# Altium footprint library PowerInductors.PCBLIB: 52 footprints (part 2 of 4)
Each footprint in its own frame and in the unit in brackets; x right, y up, seen from the top. Pads: shape width x height; smd on the part's side, far side on the other; paste and mask are expansions set on the pad; w line width, h text height; cw(c..) or ccw(c..) is an arc to the next point about the centre after c.
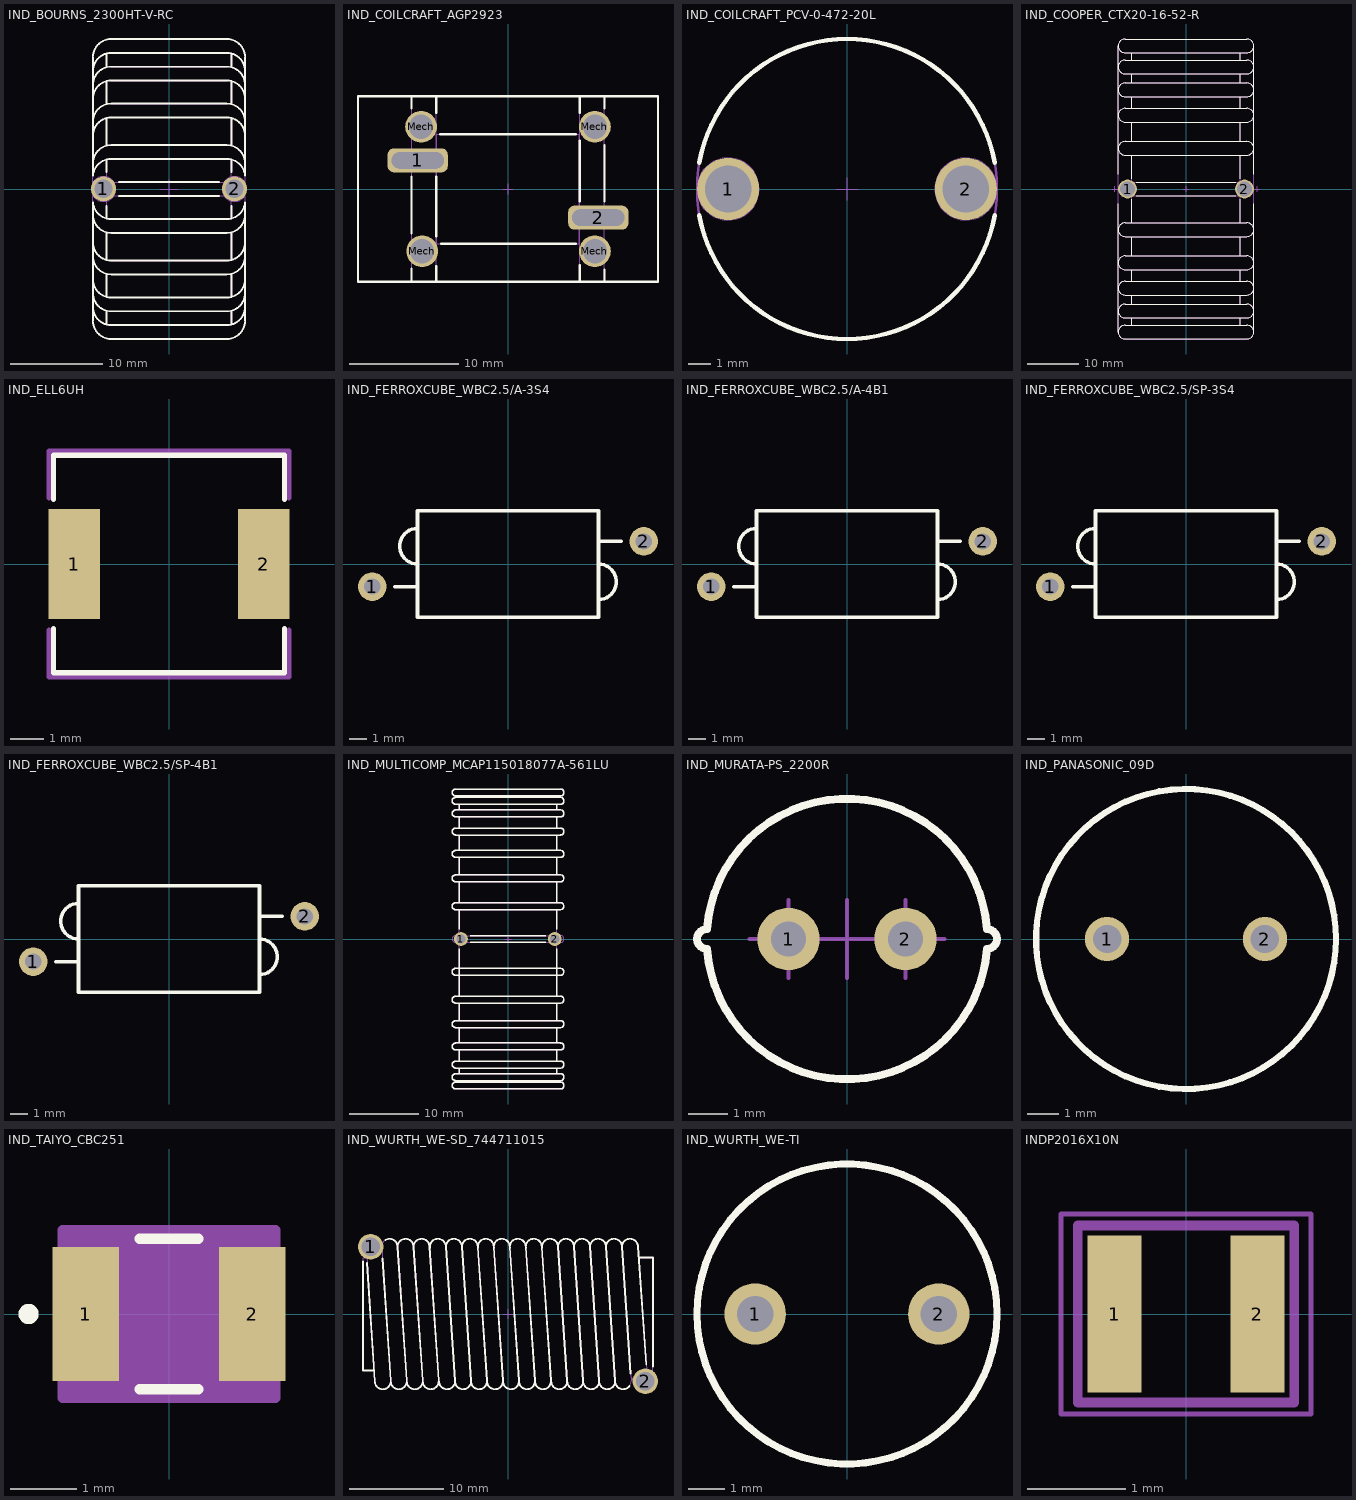
[diagram p1: the footprints below, top view; thin cyan lines are the x and y axes]

## IND_BOURNS_2300HT-V-RC [mm] "Vertical Leaded Toroidal Inductor Lead Spacing  14.22mm D32.51mm x W16.51mm"
height 32.51
pads (2):
  round 2.7 hole 2: 1(-7.1,0.013) 2(7.1,0.013)
Top Overlay:
  lines w0.2: -8.255,-12.756 ccw(c-6.255,-12.756) -6.255,-14.756 6.255,-14.756 ccw(c6.255,-12.756) 8.255,-12.756 ; -8.255,-11.256 ccw(c-6.255,-11.256) -6.255,-13.256 6.255,-13.256 ccw(c6.255,-11.256) 8.255,-11.256 ; -8.255,-9.756 ccw(c-6.255,-9.756) -6.255,-11.756 6.255,-11.756 ccw(c6.255,-9.756) 8.255,-9.756 ; -8.255,-7.256 ccw(c-6.255,-7.256) -6.255,-9.256 6.255,-9.256 ccw(c6.255,-7.256) 8.255,-7.256 ; -8.255,-5.756 ccw(c-6.255,-5.756) -6.255,-7.756 6.255,-7.756 ccw(c6.255,-5.756) 8.255,-5.756 ; -8.255,-2.756 ccw(c-6.255,-2.756) -6.255,-4.756 6.255,-4.756 ccw(c6.255,-2.756) 8.255,-2.756 ; -8.255,-1.445 -8.255,-14.256 ccw(c-6.255,-14.256) -6.255,-16.256 6.255,-16.256 ccw(c6.255,-14.256) 8.255,-14.256 8.255,-1.445 ; -8.255,1.445 -8.255,14.256 cw(c-6.255,14.256) -6.255,16.256 6.255,16.256 cw(c6.255,14.256) 8.255,14.256 8.255,1.445 ; -8.255,2.756 cw(c-6.255,2.756) -6.255,4.756 6.255,4.756 cw(c6.255,2.756) 8.255,2.756 ; -8.255,5.756 cw(c-6.255,5.756) -6.255,7.756 6.255,7.756 cw(c6.255,5.756) 8.255,5.756 ; -8.255,7.256 cw(c-6.255,7.256) -6.255,9.256 6.255,9.256 cw(c6.255,7.256) 8.255,7.256 ; -8.255,9.756 cw(c-6.255,9.756) -6.255,11.756 6.255,11.756 cw(c6.255,9.756) 8.255,9.756 ; -8.255,11.256 cw(c-6.255,11.256) -6.255,13.256 6.255,13.256 cw(c6.255,11.256) 8.255,11.256 ; -8.255,12.756 cw(c-6.255,12.756) -6.255,14.756 6.255,14.756 cw(c6.255,12.756) 8.255,12.756 ; -8.245,-1.453 ccw(c-6.255,-1.256) -6.255,-3.256 6.255,-3.256 ccw(c6.255,-1.256) 8.245,-1.453 ; -8.245,1.453 cw(c-6.255,1.256) -6.255,3.256 6.255,3.256 cw(c6.255,1.256) 8.245,1.453 ; -6.755,-14.692 -6.755,-13.192 ; -6.755,-11.692 -6.755,-9.192 ; -6.755,-7.692 -6.755,-4.692 ; -6.755,-3.192 -6.755,-1.818 ; -6.755,1.818 -6.755,3.192 ; -6.755,4.692 -6.755,7.692 ; -6.755,9.192 -6.755,11.692 ; -6.755,13.192 -6.755,14.692 ; -5.409,-0.75 5.409,-0.75 ; -5.409,0.75 5.409,0.75 ; 6.755,-14.692 6.755,-13.192 ; 6.755,-11.692 6.755,-9.192 ; 6.755,-7.692 6.755,-4.692 ; 6.755,-3.192 6.755,-1.818 ; 6.755,1.818 6.755,3.192 ; 6.755,4.692 6.755,7.692 ; 6.755,9.192 6.755,11.692 ; 6.755,13.192 6.755,14.692
Mechanical 8:
  circle w0.1: c7.1,0 r1.35
  circle w0.1: c7.1,0 r1
  circle w0.1: c-7.1,0 r1.35
  circle w0.1: c-7.1,0 r1
  lines w0.1: -8.1,0.013 -7.1,0.013 ; -7.1,-0.987 -7.1,0.013 ; -7.1,1.013 -7.1,0.013 ; -6.1,0.013 -7.1,0.013 ; -1,0 0,0 ; 0,-1 0,0 ; 0,1 0,0 ; 1,0 0,0 ; 6.1,0.013 7.1,0.013 ; 7.1,-0.987 7.1,0.013 ; 7.1,1.013 7.1,0.013 ; 8.1,0.013 7.1,0.013
Mechanical 14:
  lines w0.1: -8.255,-12.756 ccw(c-6.255,-12.756) -6.255,-14.756 6.255,-14.756 ccw(c6.255,-12.756) 8.255,-12.756 ; -8.255,-11.256 ccw(c-6.255,-11.256) -6.255,-13.256 6.255,-13.256 ccw(c6.255,-11.256) 8.255,-11.256 ; -8.255,-9.756 ccw(c-6.255,-9.756) -6.255,-11.756 6.255,-11.756 ccw(c6.255,-9.756) 8.255,-9.756 ; -8.255,-7.256 ccw(c-6.255,-7.256) -6.255,-9.256 6.255,-9.256 ccw(c6.255,-7.256) 8.255,-7.256 ; -8.255,-5.756 ccw(c-6.255,-5.756) -6.255,-7.756 6.255,-7.756 ccw(c6.255,-5.756) 8.255,-5.756 ; -8.255,-2.756 ccw(c-6.255,-2.756) -6.255,-4.756 6.255,-4.756 ccw(c6.255,-2.756) 8.255,-2.756 ; -8.255,-1.256 ccw(c-6.255,-1.256) -6.255,-3.256 6.255,-3.256 ccw(c6.255,-1.256) 8.255,-1.256 ; -8.255,1.256 cw(c-6.255,1.256) -6.255,3.256 6.255,3.256 cw(c6.255,1.256) 8.255,1.256 ; -8.255,2.756 cw(c-6.255,2.756) -6.255,4.756 6.255,4.756 cw(c6.255,2.756) 8.255,2.756 ; -8.255,5.756 cw(c-6.255,5.756) -6.255,7.756 6.255,7.756 cw(c6.255,5.756) 8.255,5.756 ; -8.255,7.256 cw(c-6.255,7.256) -6.255,9.256 6.255,9.256 cw(c6.255,7.256) 8.255,7.256 ; -8.255,9.756 cw(c-6.255,9.756) -6.255,11.756 6.255,11.756 cw(c6.255,9.756) 8.255,9.756 ; -8.255,11.256 cw(c-6.255,11.256) -6.255,13.256 6.255,13.256 cw(c6.255,11.256) 8.255,11.256 ; -8.255,12.756 cw(c-6.255,12.756) -6.255,14.756 6.255,14.756 cw(c6.255,12.756) 8.255,12.756 ; -6.755,-14.692 -6.755,-13.192 ; -6.755,-11.692 -6.755,-9.192 ; -6.755,-7.692 -6.755,-4.692 ; -6.755,-3.192 -6.755,-0.75 ; -6.755,0.75 -6.755,3.192 ; -6.755,4.692 -6.755,7.692 ; -6.755,9.192 -6.755,11.692 ; -6.755,13.192 -6.755,14.692 ; 6.755,-14.692 6.755,-13.192 ; 6.755,-11.692 6.755,-9.192 ; 6.755,-7.692 6.755,-4.692 ; 6.755,-3.192 6.755,-0.75 ; 6.755,0.75 6.755,3.192 ; 6.755,4.692 6.755,7.692 ; 6.755,9.192 6.755,11.692 ; 6.755,13.192 6.755,14.692 ; -8.255,-14.256 ccw(c-6.255,-14.256) -6.255,-16.256 6.255,-16.256 ccw(c6.255,-14.256) 8.255,-14.256 8.255,14.256 ccw(c6.255,14.256) 6.255,16.256 -6.255,16.256 ccw(c-6.255,14.256) -8.255,14.256 -8.255,-14.256 ; -7.505,-0.75 cw(c-7.505,0) -7.505,0.75 7.505,0.75 cw(c7.505,0) 7.505,-0.75 -7.505,-0.75
3D body "IND_BOURNS_2300HT-V-RC.stp": height 32.51, standoff -3.8, extent -8.343,-16.254 8.287,16.255

## IND_COILCRAFT_AGP2923 [mm] "AGP2923 Series, SMD Inductor  Body Width 19.97mm Body Lenght 27.43mm Height 23.75mm"
height 23.75
pads (6):
  rrect50% 5.5x2.2 hole 1.5 slot 4.8 at 0 deg: 1(-8.255,2.615) 2(8.255,-2.615)
  round 2.9 hole 2.2: Mech(-7.95,5.69) Mech(-7.85,-5.69) Mech(7.95,-5.69) Mech(7.95,5.69)
Top Overlay:
  lines w0.2: -8.815,-8.485 -8.815,-7.298 ; -8.815,-4.082 -8.815,1.145 ; -8.815,7.354 -8.815,8.485 ; -6.565,-8.485 -6.565,-7.055 ; -6.565,-4.325 -6.565,1.145 ; -6.565,6.954 -6.565,8.47 ; -6.207,5 6.207,5 ; -6.107,-5 6.207,-5 ; 6.565,-8.47 6.565,-6.954 ; 6.565,-1.145 6.565,4.426 ; 6.565,6.954 6.565,8.485 ; 8.815,-8.485 8.815,-7.354 ; 8.815,-1.145 8.815,4.026 ; 8.815,7.354 8.815,8.485 ; -13.715,-8.485 13.715,-8.485 13.715,8.485 -13.715,8.485 -13.715,-8.485
Mechanical 8:
  circle w0.1: c-7.95,5.69 r1.12
  circle w0.1: c7.95,5.69 r1.12
  circle w0.1: c7.95,-5.69 r1.12
  circle w0.1: c-7.85,-5.69 r1.12
  lines w0.1: -8.755,2.615 -8.255,2.615 ; -8.45,5.69 -7.95,5.69 ; -8.35,-5.69 -7.85,-5.69 ; -8.255,2.115 -8.255,2.615 ; -8.255,3.115 -8.255,2.615 ; -7.95,5.19 -7.95,5.69 ; -7.95,6.19 -7.95,5.69 ; -7.85,-6.19 -7.85,-5.69 ; -7.85,-5.19 -7.85,-5.69 ; -7.755,2.615 -8.255,2.615 ; -7.45,5.69 -7.95,5.69 ; -7.35,-5.69 -7.85,-5.69 ; -0.5,0 0,0 ; 0,-0.5 0,0 ; 0,0.5 0,0 ; 0.5,0 0,0 ; 7.45,-5.69 7.95,-5.69 ; 7.45,5.69 7.95,5.69 ; 7.755,-2.615 8.255,-2.615 ; 7.95,-6.19 7.95,-5.69 ; 7.95,-5.19 7.95,-5.69 ; 7.95,5.19 7.95,5.69 ; 7.95,6.19 7.95,5.69 ; 8.255,-3.115 8.255,-2.615 ; 8.255,-2.115 8.255,-2.615 ; 8.45,-5.69 7.95,-5.69 ; 8.45,5.69 7.95,5.69 ; 8.755,-2.615 8.255,-2.615 ; -10.67,1.845 -5.84,1.845 -5.84,3.385 -10.67,3.385 -10.67,1.845 ; 5.84,-3.385 10.67,-3.385 10.67,-1.845 5.84,-1.845 5.84,-3.385
Mechanical 14:
  lines w0.1: -8.815,-8.485 -8.815,8.485 ; -6.565,-8.485 -6.565,8.47 ; 6.565,-8.47 6.565,8.485 ; 8.815,-8.485 8.815,8.485 ; -13.715,-8.485 13.715,-8.485 13.715,8.485 -13.715,8.485 -13.715,-8.485 ; -6.504,-5 6.504,-5 6.504,5 -6.504,5 -6.504,-5
3D body "IND_COILCRAFT_AGP29238.stp": height 23.75, standoff -3.8, extent -13.715,-8.485 13.715,8.485

## IND_COILCRAFT_PCV-0-472-20L [mm] "Radial Leaded Wire Wound Inductor D=13.5mm"
height 30.5
pads (2):
  round 2.8 hole 2.1: 1(-5.35,0) 2(5.35,0)
Top Overlay:
  lines w0.2: -6.647,-1.175 ccw(c0,0) 6.647,-1.175 ; -6.647,1.175 cw(c0,0) 6.647,1.175
Mechanical 8:
  circle w0.05: c-5.35,0 r1.05
  circle w0.05: c-5.35,0 r1.4
  circle w0.05: c5.35,0 r1.05
  circle w0.05: c5.35,0 r1.4
  lines w0.05: -5.85,0 -5.35,0 ; -5.35,-0.5 -5.35,0 ; -5.35,0.5 -5.35,0 ; -4.85,0 -5.35,0 ; -0.5,0 0,0 ; 0,-0.5 0,0 ; 0,0.5 0,0 ; 0.5,0 0,0 ; 4.85,0 5.35,0 ; 5.35,-0.5 5.35,0 ; 5.35,0.5 5.35,0 ; 5.85,0 5.35,0
Mechanical 14:
  circle w0.1: c0,0 r6.75
3D body "IND_COILCRAFT_PCV-0-472-20L.stp": height 30.5, standoff -6.6, extent -6.75,-6.75 6.75,6.75

## IND_COOPER_CTX20-16-52-R [mm] "Vertical Leaded Toroidal Inductor Lead Spacing 23mm D59mm x W28mm"
height 59
pads (2):
  round 3.7 hole 3: 1(-11.5,0) 2(11.5,0)
Top Overlay:
  lines w0.2: -13.325,-28.15 -13.325,-2.923 ; -13.325,2.923 -13.325,28.15 ; -10.625,-26.8 -10.625,-25.35 ; -10.625,-22.65 -10.625,-20.85 ; -10.625,-18.15 -10.625,-15.85 ; -10.625,-13.15 -10.625,-9.35 ; -10.625,-6.65 -10.625,-2.019 ; -10.625,2.019 -10.625,6.65 ; -10.625,9.35 -10.625,13.15 ; -10.625,15.85 -10.625,18.15 ; -10.625,20.85 -10.625,22.65 ; -10.625,25.35 -10.625,26.8 ; -9.763,-1.35 9.763,-1.35 ; -9.763,1.35 9.763,1.35 ; 10.625,-26.8 10.625,-25.35 ; 10.625,-22.65 10.625,-20.85 ; 10.625,-18.15 10.625,-15.85 ; 10.625,-13.15 10.625,-9.35 ; 10.625,-6.65 10.625,-2.019 ; 10.625,2.019 10.625,6.65 ; 10.625,9.35 10.625,13.15 ; 10.625,15.85 10.625,18.15 ; 10.625,20.85 10.625,22.65 ; 10.625,25.35 10.625,26.8 ; 13.325,-28.15 13.325,-2.923 ; 13.325,2.923 13.325,28.15 ; -11.975,-29.5 cw(c-11.975,-28.15) -11.975,-26.8 11.975,-26.8 cw(c11.975,-28.15) 11.975,-29.5 -11.975,-29.5 ; -11.975,-25.35 cw(c-11.975,-24) -11.975,-22.65 11.975,-22.65 cw(c11.975,-24) 11.975,-25.35 -11.975,-25.35 ; -11.975,-20.85 cw(c-11.975,-19.5) -11.975,-18.15 11.975,-18.15 cw(c11.975,-19.5) 11.975,-20.85 -11.975,-20.85 ; -11.975,-15.85 cw(c-11.975,-14.5) -11.975,-13.15 11.975,-13.15 cw(c11.975,-14.5) 11.975,-15.85 -11.975,-15.85 ; -11.975,-9.35 cw(c-11.975,-8) -11.975,-6.65 11.975,-6.65 cw(c11.975,-8) 11.975,-9.35 -11.975,-9.35 ; -11.975,6.65 cw(c-11.975,8) -11.975,9.35 11.975,9.35 cw(c11.975,8) 11.975,6.65 -11.975,6.65 ; -11.975,13.15 cw(c-11.975,14.5) -11.975,15.85 11.975,15.85 cw(c11.975,14.5) 11.975,13.15 -11.975,13.15 ; -11.975,18.15 cw(c-11.975,19.5) -11.975,20.85 11.975,20.85 cw(c11.975,19.5) 11.975,18.15 -11.975,18.15 ; -11.975,22.65 cw(c-11.975,24) -11.975,25.35 11.975,25.35 cw(c11.975,24) 11.975,22.65 -11.975,22.65 ; -11.975,26.8 cw(c-11.975,28.15) -11.975,29.5 11.975,29.5 cw(c11.975,28.15) 11.975,26.8 -11.975,26.8
Mechanical 8:
  lines w0.1: -14.5,0 -14,0 ; -14,-0.5 -14,0 ; -14,0.5 -14,0 ; -13.5,0 -14,0 ; -0.5,0 0,0 ; 0,-0.5 0,0 ; 0,0.5 0,0 ; 0.5,0 0,0 ; 13.5,0 14,0 ; 14,-0.5 14,0 ; 14,0.5 14,0 ; 14.5,0 14,0
Mechanical 14:
  lines w0.1: -13.325,-28.15 -13.325,28.15 ; -10.625,-26.8 -10.625,-25.35 ; -10.625,-22.65 -10.625,-20.85 ; -10.625,-18.15 -10.625,-15.85 ; -10.625,-13.15 -10.625,-9.35 ; -10.625,-6.65 -10.625,-1.35 ; -10.625,1.35 -10.625,6.65 ; -10.625,9.35 -10.625,13.15 ; -10.625,15.85 -10.625,18.15 ; -10.625,20.85 -10.625,22.65 ; -10.625,25.35 -10.625,26.8 ; 10.625,-26.8 10.625,-25.35 ; 10.625,-22.65 10.625,-20.85 ; 10.625,-18.15 10.625,-15.85 ; 10.625,-13.15 10.625,-9.35 ; 10.625,-6.65 10.625,-1.35 ; 10.625,1.35 10.625,6.65 ; 10.625,9.35 10.625,13.15 ; 10.625,15.85 10.625,18.15 ; 10.625,20.85 10.625,22.65 ; 10.625,25.35 10.625,26.8 ; 13.325,-28.15 13.325,28.15 ; -11.975,-29.5 cw(c-11.975,-28.15) -11.975,-26.8 11.975,-26.8 cw(c11.975,-28.15) 11.975,-29.5 -11.975,-29.5 ; -11.975,-25.35 cw(c-11.975,-24) -11.975,-22.65 11.975,-22.65 cw(c11.975,-24) 11.975,-25.35 -11.975,-25.35 ; -11.975,-20.85 cw(c-11.975,-19.5) -11.975,-18.15 11.975,-18.15 cw(c11.975,-19.5) 11.975,-20.85 -11.975,-20.85 ; -11.975,-15.85 cw(c-11.975,-14.5) -11.975,-13.15 11.975,-13.15 cw(c11.975,-14.5) 11.975,-15.85 -11.975,-15.85 ; -11.975,-9.35 cw(c-11.975,-8) -11.975,-6.65 11.975,-6.65 cw(c11.975,-8) 11.975,-9.35 -11.975,-9.35 ; -11.975,-1.35 cw(c-11.975,0) -11.975,1.35 11.975,1.35 cw(c11.975,0) 11.975,-1.35 -11.975,-1.35 ; -11.975,6.65 cw(c-11.975,8) -11.975,9.35 11.975,9.35 cw(c11.975,8) 11.975,6.65 -11.975,6.65 ; -11.975,13.15 cw(c-11.975,14.5) -11.975,15.85 11.975,15.85 cw(c11.975,14.5) 11.975,13.15 -11.975,13.15 ; -11.975,18.15 cw(c-11.975,19.5) -11.975,20.85 11.975,20.85 cw(c11.975,19.5) 11.975,18.15 -11.975,18.15 ; -11.975,22.65 cw(c-11.975,24) -11.975,25.35 11.975,25.35 cw(c11.975,24) 11.975,22.65 -11.975,22.65 ; -11.975,26.8 cw(c-11.975,28.15) -11.975,29.5 11.975,29.5 cw(c11.975,28.15) 11.975,26.8 -11.975,26.8
3D body "IND_COOPER_CTX20-16-52-R.stp": height 59, standoff -3.8, extent -14,-29.5 14,29.5

## IND_ELL6UH [mil]
pads (2):
  rect 61x130 smd: 1(-111.5,0) 2(111.5,0)
Top Overlay:
  lines w6: -136,-76 -136,-128 136,-128 136,-76 ; -136,76 -136,128 136,128 136,76
Mechanical 16:
  lines w6: -141,-78 -141,-133 141,-133 141,-78 ; -141,78 -141,133 141,133 141,78
3D body: height 196.85, standoff 0, extent -98.42,-108.39 98.43,88.4
3D body: height 192.91, standoff 0, extent -135,-130 135,130

## IND_FERROXCUBE_WBC2.5/A-3S4 [mm] "Wideband Choke, Axial, Pad spacing 15.24 mm - Body Lengh 10mm X Body Diameter 6mm"
height 6
pads (2):
  round 1.6 hole 0.9: 1(-7.62,-1.27) 2(7.62,1.27)
Top Overlay:
  lines w0.2: -6.35,-1.27 -5.08,-1.27 ; -5.08,0 cw(c-5.08,1) -5.08,2 ; 5.08,-2 ccw(c5.08,-1) 5.08,0 ; 5.08,1.27 6.35,1.27 ; -5.08,-3 5.08,-3 5.08,3 -5.08,3 -5.08,-3
Mechanical 14:
  lines w0.1: -6.35,-1.27 -5.08,-1.27 ; -5.08,0 cw(c-5.08,1) -5.08,2 ; 5.08,-2 ccw(c5.08,-1) 5.08,0 ; 5.08,1.27 6.35,1.27 ; -5.08,-3 5.08,-3 5.08,3 -5.08,3 -5.08,-3
3D body "IND_FERROXCUBE_WBC2.5-SP-3S4.stp": height 6, standoff -3.6, extent -7.92,-2.947 7.92,3.052

## IND_FERROXCUBE_WBC2.5/A-4B1 [mm] "Wideband Choke, Axial, Pad spacing 15.24 mm - Body Lengh 10mm X Body Diameter 6mm"
height 6
pads (2):
  round 1.6 hole 0.9: 1(-7.62,-1.27) 2(7.62,1.27)
Top Overlay:
  lines w0.2: -6.35,-1.27 -5.08,-1.27 ; -5.08,0 cw(c-5.08,1) -5.08,2 ; 5.08,-2 ccw(c5.08,-1) 5.08,0 ; 5.08,1.27 6.35,1.27 ; -5.08,-3 5.08,-3 5.08,3 -5.08,3 -5.08,-3
Mechanical 14:
  lines w0.1: -6.35,-1.27 -5.08,-1.27 ; -5.08,0 cw(c-5.08,1) -5.08,2 ; 5.08,-2 ccw(c5.08,-1) 5.08,0 ; 5.08,1.27 6.35,1.27 ; -5.08,-3 5.08,-3 5.08,3 -5.08,3 -5.08,-3
3D body "IND_FERROXCUBE_WBC2.5-SP-4B1.stp": height 6, standoff -3.6, extent -7.92,-2.947 7.92,3.053

## IND_FERROXCUBE_WBC2.5/SP-3S4 [mm] "Wideband Choke, Axial, Pad spacing 15.24 mm - Body Lengh 10mm X Body Diameter 6mm"
height 6
pads (2):
  round 1.6 hole 0.9: 1(-7.62,-1.27) 2(7.62,1.27)
Top Overlay:
  lines w0.2: -6.35,-1.27 -5.08,-1.27 ; -5.08,0 cw(c-5.08,1) -5.08,2 ; 5.08,-2 ccw(c5.08,-1) 5.08,0 ; 5.08,1.27 6.35,1.27 ; -5.08,-3 5.08,-3 5.08,3 -5.08,3 -5.08,-3
Mechanical 14:
  lines w0.1: -6.35,-1.27 -5.08,-1.27 ; -5.08,0 cw(c-5.08,1) -5.08,2 ; 5.08,-2 ccw(c5.08,-1) 5.08,0 ; 5.08,1.27 6.35,1.27 ; -5.08,-3 5.08,-3 5.08,3 -5.08,3 -5.08,-3
3D body "IND_FERROXCUBE_WBC2.5-SP-3S4.stp": height 6, standoff -3.6, extent -7.92,-2.947 7.92,3.052

## IND_FERROXCUBE_WBC2.5/SP-4B1 [mm] "Wideband Choke, Axial, Pad spacing 15.24 mm - Body Lengh 10mm X Body Diameter 6mm"
height 6
pads (2):
  round 1.6 hole 0.9: 1(-7.62,-1.27) 2(7.62,1.27)
Top Overlay:
  lines w0.2: -6.35,-1.27 -5.08,-1.27 ; -5.08,0 cw(c-5.08,1) -5.08,2 ; 5.08,-2 ccw(c5.08,-1) 5.08,0 ; 5.08,1.27 6.35,1.27 ; -5.08,-3 -5.08,3 5.08,3 5.08,-3 -5.08,-3
Mechanical 14:
  lines w0.1: -6.35,-1.27 -5.08,-1.27 ; -5.08,0 cw(c-5.08,1) -5.08,2 ; 5.08,-2 ccw(c5.08,-1) 5.08,0 ; 5.08,1.27 6.35,1.27 ; -5.08,-3 -5.08,3 5.08,3 5.08,-3 -5.08,-3
3D body "IND_FERROXCUBE_WBC2.5-SP-4B1.stp": height 6, standoff -3.6, extent -7.92,-2.947 7.92,3.053

## IND_MULTICOMP_MCAP115018077A-561LU [mm] "Vertical Leaded Toroidal Inductor Lead Spacing 13.5mm D43mm x W16mm"
height 43
pads (2):
  round 2 hole 1.3: 1(-6.75,0) 2(6.7,0)
Top Overlay:
  lines w0.2: -7,-20.5 -7,-20.3 ; -7,-19.3 -7,-18.5 ; -7,-17.5 -7,-15.9 ; -7,-14.9 -7,-12.7 ; -7,-11.7 -7,-9.2 ; -7,-8.2 -7,-1.428 ; -7,1.428 -7,4.2 ; -7,5.2 -7,8.2 ; -7,9.2 -7,11.7 ; -7,12.7 -7,14.9 ; -7,15.9 -7,17.5 ; -7,18.5 -7,19.3 ; -7,20.3 -7,20.5 ; -5.389,-0.5 5.389,-0.5 ; -5.389,0.5 5.389,0.5 ; 7,-20.5 7,-20.3 ; 7,-19.3 7,-18.5 ; 7,-17.5 7,-15.9 ; 7,-14.9 7,-12.7 ; 7,-11.7 7,-9.2 ; 7,-8.2 7,-1.428 ; 7,1.428 7,4.2 ; 7,5.2 7,8.2 ; 7,9.2 7,11.7 ; 7,12.7 7,14.9 ; 7,15.9 7,17.5 ; 7,18.5 7,19.3 ; 7,20.3 7,20.5 ; -7.504,-21.5 cw(c-7.504,-21) -7.504,-20.5 7.5,-20.5 cw(c7.5,-21) 7.5,-21.5 -7.504,-21.5 ; -7.504,-20.3 cw(c-7.504,-19.8) -7.504,-19.3 7.5,-19.3 cw(c7.5,-19.8) 7.5,-20.3 -7.504,-20.3 ; -7.504,-18.5 cw(c-7.504,-18) -7.504,-17.5 7.5,-17.5 cw(c7.5,-18) 7.5,-18.5 -7.504,-18.5 ; -7.504,-15.9 cw(c-7.504,-15.4) -7.504,-14.9 7.5,-14.9 cw(c7.5,-15.4) 7.5,-15.9 -7.504,-15.9 ; -7.504,-12.7 cw(c-7.504,-12.2) -7.504,-11.7 7.5,-11.7 cw(c7.5,-12.2) 7.5,-12.7 -7.504,-12.7 ; -7.504,-9.2 cw(c-7.504,-8.7) -7.504,-8.2 7.5,-8.2 cw(c7.5,-8.7) 7.5,-9.2 -7.504,-9.2 ; -7.504,-5.2 cw(c-7.504,-4.7) -7.504,-4.2 7.5,-4.2 cw(c7.5,-4.7) 7.5,-5.2 -7.504,-5.2 ; -7.504,4.2 cw(c-7.504,4.7) -7.504,5.2 7.5,5.2 cw(c7.5,4.7) 7.5,4.2 -7.504,4.2 ; -7.504,8.2 cw(c-7.504,8.7) -7.504,9.2 7.5,9.2 cw(c7.5,8.7) 7.5,8.2 -7.504,8.2 ; -7.504,11.7 cw(c-7.504,12.2) -7.504,12.7 7.5,12.7 cw(c7.5,12.2) 7.5,11.7 -7.504,11.7 ; -7.504,14.9 cw(c-7.504,15.4) -7.504,15.9 7.5,15.9 cw(c7.5,15.4) 7.5,14.9 -7.504,14.9 ; -7.504,17.5 cw(c-7.504,18) -7.504,18.5 7.5,18.5 cw(c7.5,18) 7.5,17.5 -7.504,17.5 ; -7.504,19.3 cw(c-7.504,19.8) -7.504,20.3 7.5,20.3 cw(c7.5,19.8) 7.5,19.3 -7.504,19.3 ; -7.504,20.5 cw(c-7.504,21) -7.504,21.5 7.5,21.5 cw(c7.5,21) 7.5,20.5 -7.504,20.5
Mechanical 8:
  lines w0.1: -7.25,0 -6.75,0 ; -6.75,-0.5 -6.75,0 ; -6.75,0.5 -6.75,0 ; -6.25,0 -6.75,0 ; -0.5,0 0,0 ; 0,-0.5 0,0 ; 0,0.5 0,0 ; 0.5,0 0,0 ; 6.25,0 6.75,0 ; 6.75,-0.5 6.75,0 ; 6.75,0.5 6.75,0 ; 7.25,0 6.75,0
Mechanical 14:
  lines w0.1: -7,-20.5 -7,-20.3 ; -7,-19.3 -7,-18.5 ; -7,-17.5 -7,-15.9 ; -7,-14.9 -7,-12.7 ; -7,-11.7 -7,-9.2 ; -7,-8.2 -7,-0.5 ; -7,0.5 -7,4.2 ; -7,5.2 -7,8.2 ; -7,9.2 -7,11.7 ; -7,12.7 -7,14.9 ; -7,15.9 -7,17.5 ; -7,18.5 -7,19.3 ; -7,20.3 -7,20.5 ; 7,-20.5 7,-20.3 ; 7,-19.3 7,-18.5 ; 7,-17.5 7,-15.9 ; 7,-14.9 7,-12.7 ; 7,-11.7 7,-9.2 ; 7,-8.2 7,-0.5 ; 7,0.5 7,4.2 ; 7,5.2 7,8.2 ; 7,9.2 7,11.7 ; 7,12.7 7,14.9 ; 7,15.9 7,17.5 ; 7,18.5 7,19.3 ; 7,20.3 7,20.5 ; -7.504,-21.5 cw(c-7.504,-21) -7.504,-20.5 7.5,-20.5 cw(c7.5,-21) 7.5,-21.5 -7.504,-21.5 ; -7.504,-20.3 cw(c-7.504,-19.8) -7.504,-19.3 7.5,-19.3 cw(c7.5,-19.8) 7.5,-20.3 -7.504,-20.3 ; -7.504,-18.5 cw(c-7.504,-18) -7.504,-17.5 7.5,-17.5 cw(c7.5,-18) 7.5,-18.5 -7.504,-18.5 ; -7.504,-15.9 cw(c-7.504,-15.4) -7.504,-14.9 7.5,-14.9 cw(c7.5,-15.4) 7.5,-15.9 -7.504,-15.9 ; -7.504,-12.7 cw(c-7.504,-12.2) -7.504,-11.7 7.5,-11.7 cw(c7.5,-12.2) 7.5,-12.7 -7.504,-12.7 ; -7.504,-9.2 cw(c-7.504,-8.7) -7.504,-8.2 7.5,-8.2 cw(c7.5,-8.7) 7.5,-9.2 -7.504,-9.2 ; -7.504,-5.2 cw(c-7.504,-4.7) -7.504,-4.2 7.5,-4.2 cw(c7.5,-4.7) 7.5,-5.2 -7.504,-5.2 ; -7.504,-0.5 cw(c-7.504,0) -7.504,0.5 7.5,0.5 cw(c7.5,0) 7.5,-0.5 -7.504,-0.5 ; -7.504,4.2 cw(c-7.504,4.7) -7.504,5.2 7.5,5.2 cw(c7.5,4.7) 7.5,4.2 -7.504,4.2 ; -7.504,8.2 cw(c-7.504,8.7) -7.504,9.2 7.5,9.2 cw(c7.5,8.7) 7.5,8.2 -7.504,8.2 ; -7.504,11.7 cw(c-7.504,12.2) -7.504,12.7 7.5,12.7 cw(c7.5,12.2) 7.5,11.7 -7.504,11.7 ; -7.504,14.9 cw(c-7.504,15.4) -7.504,15.9 7.5,15.9 cw(c7.5,15.4) 7.5,14.9 -7.504,14.9 ; -7.504,17.5 cw(c-7.504,18) -7.504,18.5 7.5,18.5 cw(c7.5,18) 7.5,17.5 -7.504,17.5 ; -7.504,19.3 cw(c-7.504,19.8) -7.504,20.3 7.5,20.3 cw(c7.5,19.8) 7.5,19.3 -7.504,19.3 ; -7.504,20.5 cw(c-7.504,21) -7.504,21.5 7.5,21.5 cw(c7.5,21) 7.5,20.5 -7.504,20.5
3D body "IND_MULTICOMP_MCAP115018077A-561LU.stp": height 43, standoff -3.8, extent -8,-21.5 8,21.5

## IND_MURATA-PS_2200R [mm] "Radial Leaded Wire Wound Inductor D=7.7mm"
height 10.5
pads (2):
  round 1.6 hole 0.9: 1(-1.5,0) 2(1.5,0)
Top Overlay:
  lines w0.2: -3.591,-0.25 ccw(c0,0) 3.591,-0.25 ccw(c3.6,0) 3.591,0.25 ccw(c0,0) -3.591,0.25 ccw(c-3.6,0) -3.591,-0.25
Mechanical 8:
  lines w0.1: -2.5,0 -1.5,0 ; -1.5,-1 -1.5,0 ; -1.5,1 -1.5,0 ; -1,0 0,0 ; -0.5,0 -1.5,0 ; 0,-1 0,0 ; 0,1 0,0 ; 0.5,0 1.5,0 ; 1,0 0,0 ; 1.5,-1 1.5,0 ; 1.5,1 1.5,0 ; 2.5,0 1.5,0
Mechanical 14:
  lines w0.1: -3.591,-0.25 cw(c-3.6,0) -3.591,0.25 cw(c0,0) 3.591,0.25 cw(c3.6,0) 3.591,-0.25 cw(c0,0) -3.591,-0.25
3D body "INDRD_MURATA-PS_2200R.stp": height 10.5, standoff -3.3, extent -3.85,-3.6 3.85,3.6

## IND_PANASONIC_09D [mm] "Radial Leaded Wire Wound Inductor D=9.5mm"
height 8.9
pads (2):
  round 1.4 hole 0.9: 1(-2.5,0) 2(2.5,0)
Top Overlay:
  circle w0.2: c0,0 r4.75
Mechanical 14:
  circle w0.1: c0,0 r4.75
3D body "IND_PANASONIC_09D.stp": height 8.9, standoff -4.1, extent -4.75,-4.75 4.75,4.75

## IND_TAIYO_CBC251 [mm]
pads (2):
  rect 1x2.007 smd paste+0 mask+0: 1(-1.248,0) 2(1.248,0)
Top Overlay:
  circle w0.152: c-2.108,0 r0.076
  lines w0.152: -0.442,-1.13 0.442,-1.13 ; -0.442,1.13 0.442,1.13
Mechanical 13:
  circle w0: c-1.27,0 r0.076
  lines w0.025: -1.346,-1.003 1.346,-1.003 1.346,1.003 -1.346,1.003 -1.346,-1.003
Mechanical 15:
  region: -1.6,-1.257 -1.6,1.257 1.6,1.257 1.6,-1.257
  lines w0.152: -1.6,-1.257 -1.6,1.257 1.6,1.257 1.6,-1.257 -1.6,-1.257
3D body "IND_TAIYO_CBC2518.stp": height 2.01, standoff 0, extent -1.346,-1.003 1.346,1.003
3D body: height 0.25, standoff 0, extent 0,0 0.254,0.254

## IND_WURTH_WE-SD_744711015 [mm] "WURTH Filter Choke WE-SD Series"
height 16
pads (2):
  round 2.7 hole 2: 1(-14.6,7.15) 2(14.6,-7.15)
Top Overlay:
  lines w0.2: -15.4,5.594 -15.4,-6 -14.241,-6 ; -14.978,5.441 -14.167,-7.148 ccw(c-13.317,-7.15) -12.469,-7.089 ; -13.357,5.918 -12.468,-7.095 ; -13.013,7.888 cw(c-12.591,7.15) -11.741,7.15 -10.768,-7.095 ; -12.467,-7.15 ccw(c-11.617,-7.15) -10.769,-7.089 ; -11.733,7.032 cw(c-10.891,7.15) -10.041,7.15 -9.068,-7.095 ; -10.767,-7.15 ccw(c-9.917,-7.15) -9.069,-7.089 ; -10.033,7.032 cw(c-9.191,7.15) -8.341,7.15 -7.368,-7.095 ; -9.067,-7.15 ccw(c-8.217,-7.15) -7.369,-7.089 ; -8.302,7.032 cw(c-7.46,7.151) -6.61,7.151 -5.638,-7.095 ; -7.336,-7.149 ccw(c-6.486,-7.149) -5.638,-7.088 ; -6.602,7.032 cw(c-5.76,7.151) -4.91,7.151 -3.938,-7.095 ; -5.636,-7.149 ccw(c-4.786,-7.149) -3.938,-7.088 ; -4.902,7.032 cw(c-4.06,7.151) -3.21,7.151 -2.238,-7.095 ; -3.936,-7.149 ccw(c-3.086,-7.149) -2.238,-7.088 ; -3.202,7.032 cw(c-2.36,7.151) -1.51,7.151 -0.538,-7.095 ; -2.236,-7.149 ccw(c-1.386,-7.149) -0.538,-7.088 ; -1.502,7.032 cw(c-0.66,7.151) 0.19,7.151 1.162,-7.095 ; -0.536,-7.149 ccw(c0.314,-7.149) 1.162,-7.088 ; 0.198,7.032 cw(c1.04,7.151) 1.89,7.151 2.862,-7.095 ; 1.164,-7.149 ccw(c2.014,-7.149) 2.862,-7.088 ; 1.898,7.032 cw(c2.74,7.151) 3.59,7.151 4.562,-7.095 ; 2.864,-7.149 ccw(c3.714,-7.149) 4.562,-7.088 ; 3.629,7.033 cw(c4.47,7.151) 5.32,7.151 6.293,-7.094 ; 4.595,-7.149 ccw(c5.445,-7.149) 6.292,-7.088 ; 5.329,7.033 cw(c6.17,7.151) 7.02,7.151 7.993,-7.094 ; 6.295,-7.149 ccw(c7.145,-7.149) 7.992,-7.088 ; 7.029,7.033 cw(c7.87,7.151) 8.72,7.151 9.693,-7.094 ; 7.995,-7.149 ccw(c8.845,-7.149) 9.692,-7.088 ; 8.729,7.033 cw(c9.57,7.151) 10.42,7.151 11.393,-7.094 ; 9.695,-7.149 ccw(c10.545,-7.149) 11.392,-7.088 ; 10.429,7.033 cw(c11.27,7.151) 12.12,7.151 13.042,-6.353 ; 11.395,-7.149 ccw(c12.245,-7.149) 12.925,-7.658 ; 12.129,7.033 cw(c12.97,7.151) 13.82,7.151 14.698,-5.403 ; 13.901,6 15.4,6 15.4,-5.594
Mechanical 8:
  lines w0.1: -15.1,7.15 -14.6,7.15 ; -14.6,6.65 -14.6,7.15 ; -14.6,7.65 -14.6,7.15 ; -14.1,7.15 -14.6,7.15 ; -0.5,0 0,0 ; 0,-0.5 0,0 ; 0,0.5 0,0 ; 0.5,0 0,0 ; 14.1,-7.15 14.6,-7.15 ; 14.6,-7.65 14.6,-7.15 ; 14.6,-6.65 14.6,-7.15 ; 15.1,-7.15 14.6,-7.15
Mechanical 14:
  lines w0.1: -15.014,6 -15.4,6 -15.4,-6 -14.241,-6 ; -13.393,6.454 -13.814,7.474 ccw(c-14.6,7.15) -15.337,6.727 -15.026,6.184 -14.167,-7.148 ccw(c-13.317,-7.15) -12.469,-7.089 ; -12.468,-7.095 -13.433,7.032 cw(c-12.591,7.15) -11.741,7.15 -10.768,-7.095 ; -12.467,-7.15 ccw(c-11.617,-7.15) -10.769,-7.089 ; -11.733,7.032 cw(c-10.891,7.15) -10.041,7.15 -9.068,-7.095 ; -10.767,-7.15 ccw(c-9.917,-7.15) -9.069,-7.089 ; -10.033,7.032 cw(c-9.191,7.15) -8.341,7.15 -7.368,-7.095 ; -9.067,-7.15 ccw(c-8.217,-7.15) -7.369,-7.089 ; -8.302,7.032 cw(c-7.46,7.151) -6.61,7.151 -5.638,-7.095 ; -7.336,-7.149 ccw(c-6.486,-7.149) -5.638,-7.088 ; -6.602,7.032 cw(c-5.76,7.151) -4.91,7.151 -3.938,-7.095 ; -5.636,-7.149 ccw(c-4.786,-7.149) -3.938,-7.088 ; -4.902,7.032 cw(c-4.06,7.151) -3.21,7.151 -2.238,-7.095 ; -3.936,-7.149 ccw(c-3.086,-7.149) -2.238,-7.088 ; -3.202,7.032 cw(c-2.36,7.151) -1.51,7.151 -0.538,-7.095 ; -2.236,-7.149 ccw(c-1.386,-7.149) -0.538,-7.088 ; -1.502,7.032 cw(c-0.66,7.151) 0.19,7.151 1.162,-7.095 ; -0.536,-7.149 ccw(c0.314,-7.149) 1.162,-7.088 ; 0.198,7.032 cw(c1.04,7.151) 1.89,7.151 2.862,-7.095 ; 1.164,-7.149 ccw(c2.014,-7.149) 2.862,-7.088 ; 1.898,7.032 cw(c2.74,7.151) 3.59,7.151 4.562,-7.095 ; 2.864,-7.149 ccw(c3.714,-7.149) 4.562,-7.088 ; 3.629,7.033 cw(c4.47,7.151) 5.32,7.151 6.293,-7.094 ; 4.595,-7.149 ccw(c5.445,-7.149) 6.292,-7.088 ; 5.329,7.033 cw(c6.17,7.151) 7.02,7.151 7.993,-7.094 ; 6.295,-7.149 ccw(c7.145,-7.149) 7.992,-7.088 ; 7.029,7.033 cw(c7.87,7.151) 8.72,7.151 9.693,-7.094 ; 7.995,-7.149 ccw(c8.845,-7.149) 9.692,-7.088 ; 8.729,7.033 cw(c9.57,7.151) 10.42,7.151 11.393,-7.094 ; 9.695,-7.149 ccw(c10.545,-7.149) 11.392,-7.088 ; 10.429,7.033 cw(c11.27,7.151) 12.12,7.151 13.092,-7.088 cw(c12.245,-7.149) 11.395,-7.149 ; 12.129,7.033 cw(c12.97,7.151) 13.82,7.151 14.739,-6 ; 13.063,-6.651 13.952,-7.7 ccw(c14.6,-7.15) 15.248,-6.6 14.739,-6 ; 13.901,6 15.4,6 15.4,-6 14.739,-6
3D body "IND_WURTH_WE-SD_744711015.stp": height 16, standoff -3, extent -15.449,-8 15.449,8

## IND_WURTH_WE-TI [mm] "Radial Leaded Wire Wound Inductor D=8.3mm WE-TI Series"
height 10
pads (2):
  round 1.7 hole 1: 1(-2.54,0) 2(2.54,0)
Top Overlay:
  circle w0.2: c0,0 r4.15
Mechanical 14:
  circle w0.1: c0,0 r4.15
3D body "INDRD_WURTH_WE-TI.stp": height 10, standoff -3.6, extent -4.65,-4.65 4.65,4.65

## INDP2016X10N [mm] "Precision Wire Wound Inductor, 2-Leads, Body 2,00x1,60mm, IPC Medium Density"
height 1
pads (2):
  rect 0.55x1.6 smd: 1(-0.725,0) 2(0.725,0)
Mechanical 13:
  lines w0.1: -1.1,-0.9 -1.1,0.9 1.1,0.9 1.1,-0.9 -1.1,-0.9
Mechanical 15:
  lines w0.05: -1.27,-1.016 -1.27,1.016 1.27,1.016 1.27,-1.016 -1.27,-1.016
3D body "INDP2016X10N.step": height 1.1, standoff 0, extent -1.1,-0.8 1.1,0.8